# Altium schematic symbol library CBCM IC.SchLib: 9 symbols
Pins are listed as number, name and electrical type; pins without a type are passive.

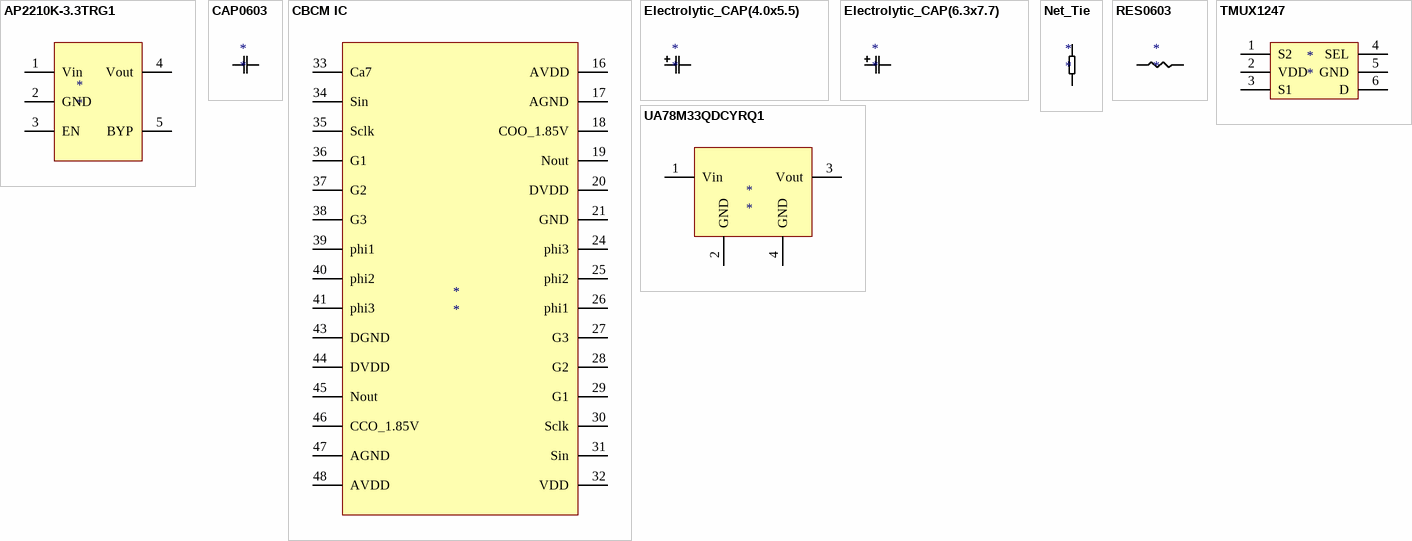
[diagram p0: symbols AP2210K-3.3TRG1 to UA78M33QDCYRQ1]

## AP2210K-3.3TRG1
designator *
pins: 1 Vin (power), 2 GND, 3 EN, 4 Vout, 5 BYP

## CAP0603
designator *
footprint CAPC1608X09N (Chip Capacitor, 2-Leads, Body 1.60x0.80mm, IPC Medium Density)
pins: 1 Terminal_0, 2 Terminal_2

## CBCM IC
designator *
footprint PGA85x11; pin to pad 16>H1 17>H2 18>J1 19>K1 20>J2 21>L1 24>L2 25>L3 26>K4 27>L4 28>J5 29>K5 30>L5 31>K6 32>J6 33>J7 34>L7 35>K7 36>L6 37>L8 38>K8 39>L9 40>L10 41>K9 43>K10 44>J10 45>K11 46>J11 47>H10 48>H11
pins: 16 AVDD (power), 17 AGND (power), 18 COO_1.85V (power), 19 Nout, 20 DVDD (power), 21 GND (power), 24 phi3, 25 phi2, 26 phi1, 27 G3, 28 G2, 29 G1, 30 Sclk, 31 Sin, 32 VDD (power), 33 Ca7 , 34 Sin, 35 Sclk, 36 G1, 37 G2, 38 G3, 39 phi1, 40 phi2, 41 phi3, 43 DGND, 44 DVDD (power), 45 Nout, 46 CCO_1.85V (power), 47 AGND (power), 48 AVDD (power)

## Electrolytic_CAP(4.0x5.5)
designator *
footprint CAPAE4643X55M (Aluminum Electrolytic Capacitor, Body 4.30x4.30x5.50mm, IPC Low Density)
pins: 1 Terminal_0, 2 Terminal_2

## Electrolytic_CAP(6.3x7.7)
designator *
footprint CAPAE7066X77M (Aluminum Electrolytic Capacitor, Body 6.60x6.60x7.70mm, IPC Low Density)
pins: 1 Terminal_0, 2 Terminal_2

## Net_Tie
designator *
pins: 1, 2

## RES0603
designator *
footprint RESC1608X09N (Chip Resistor, 2-Leads, Body 1.60x0.80mm, IPC Medium Density)
pins: 1 Terminal_1, 2 Terminal_2

## TMUX1247
designator *
footprint TSOP65P210X110-6N (TSOP, 6-Leads, Body 2.00x1.25mm, Pitch 0.65mm, IPC Medium Density)
pins: 1 S2, 2 VDD, 3 S1, 4 SEL, 5 GND, 6 D

## UA78M33QDCYRQ1
designator *
footprint SOT230P700X180-4N (SOT223, 4-Leads, Body 6.50x7.00mm (avg), Pitch 2.30mm, IPC Medium Density)
pins: 1 Vin (power), 2 GND (power), 3 Vout (power), 4 GND (power)